# Altium footprint library trafo.PCBLIB: 80 footprints (part 4 of 5)
Each footprint in its own frame and in the unit in brackets; x right, y up, seen from the top. Pads: shape width x height; smd on the part's side, far side on the other; paste and mask are expansions set on the pad; w line width, h text height; cw(c..) or ccw(c..) is an arc to the next point about the centre after c.
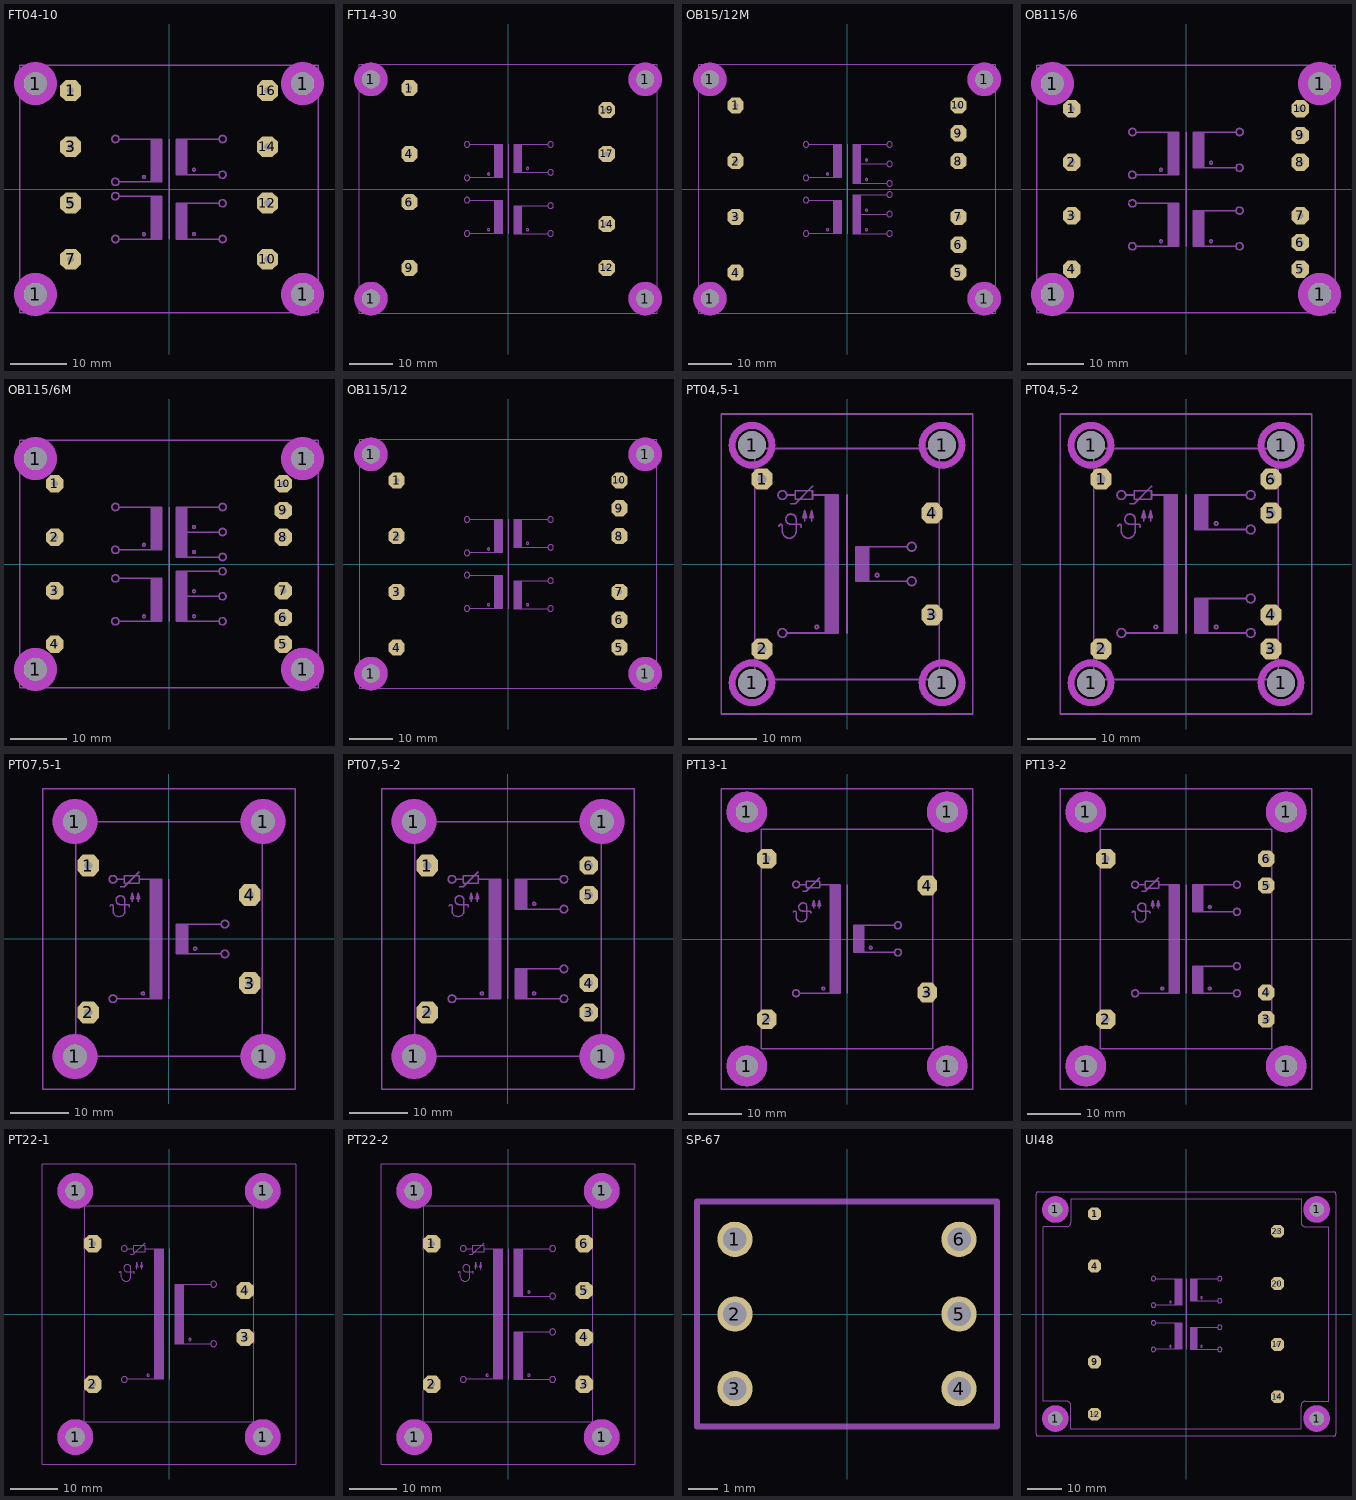
[diagram p3: the footprints below, top view; thin cyan lines are the x and y axes]

## FT04-10 [mil]
pads (12):
  round 162 hole 162: 1(-935,-738) 1(-935,738) 1(935,-738) 1(935,738)
  oct 145.24x145.24 hole 47: 1(-689,689) 3(-689,295) 5(-689,-98) 7(-689,-492) 10(689,-492) 12(689,-98) 14(689,295) 16(689,689)
Mechanical 2:
  circle w10: c-175,84 r10
  circle w10: c175,135 r10
  circle w10: c175,-315 r10
  circle w10: c-175,-316 r10
  circle w10: c375,100 r25
  circle w10: c375,350 r25
  circle w10: c-375,350 r25
  circle w10: c-375,-350 r25
  circle w10: c375,-350 r25
  circle w10: c375,-100 r25
  circle w10: c-375,-50 r25
  circle w10: c-375,50 r25
  rectangle: -125,50 -50,350
  rectangle: 50,100 125,350
  rectangle: -125,-350 -50,-50
  rectangle: 50,-350 125,-100
  lines w10: -350,-350 -125,-350 ; -350,-50 -125,-50 ; -350,50 -125,50 ; -350,350 -125,350 ; 0,-350 0,350 ; 350,-350 125,-350 ; 350,-100 125,-100 ; 350,100 125,100 ; 350,350 125,350 ; -125,-350 -125,-50 ; -125,-350 -50,-350 -50,-50 -125,-50 ; -125,50 -125,350 ; -125,50 -50,50 -50,350 -125,350 ; 125,-350 50,-350 50,-100 125,-100 ; 125,-350 125,-100 ; 125,100 50,100 50,350 125,350 ; 125,100 125,350 ; -1044,-866 1044,-866 1044,866 -1044,866 -1044,-866
Mechanical 11 keep-out:
  circle w70: c935,738 r115
  circle w70: c935,-738 r115
  circle w70: c-935,-738 r115
  circle w70: c-935,738 r115
Mechanical 12:
  circle w70: c935,738 r115
  circle w70: c935,-738 r115
  circle w70: c-935,-738 r115
  circle w70: c-935,738 r115

## FT14-30 [mil]
pads (12):
  round 162 hole 162: 1(-1231,-984) 1(-1231,984) 1(1231,-984) 1(1231,984)
  oct 145.24x145.24 hole 47: 1(-886,906) 4(-886,315) 6(-886,-118) 9(-886,-709) 12(886,-709) 14(886,-315) 17(886,315) 19(886,709)
Mechanical 2:
  circle w10: c-175,135 r10
  circle w10: c175,185 r10
  circle w10: c175,-365 r10
  circle w10: c-175,-365 r10
  circle w10: c382,150 r25
  circle w10: c382,400 r25
  circle w10: c-368,400 r25
  circle w10: c-368,100 r25
  circle w10: c-368,-100 r25
  circle w10: c-368,-400 r25
  circle w10: c382,-400 r25
  circle w10: c382,-150 r25
  rectangle: 50,-400 125,-150
  rectangle: -125,-400 -50,-100
  rectangle: -125,100 -50,400
  rectangle: 50,150 125,400
  lines w10: -340,-400 -125,-400 ; -340,-100 -125,-100 ; -340,100 -125,100 ; -340,400 -125,400 ; 0,-400 0,400 ; 355,-400 125,-400 ; 355,-150 125,-150 ; 355,150 125,150 ; 355,400 125,400 ; -125,-400 -125,-100 ; -125,-400 -50,-400 -50,-100 -125,-100 ; -125,100 -125,400 ; -125,100 -50,100 -50,400 -125,400 ; 125,-400 50,-400 50,-150 125,-150 ; 125,-400 125,-150 ; 125,150 50,150 50,400 125,400 ; 125,150 125,400 ; -1340,-1122 -1340,1122 1340,1122 1340,-1122 -1340,-1122
Mechanical 11 keep-out:
  circle w70: c-1231,984 r115
  circle w70: c1231,984 r115
  circle w70: c1231,-984 r115
  circle w70: c-1231,-984 r115
Mechanical 12:
  circle w70: c-1232,984 r115
  circle w70: c1231,985 r115
  circle w70: c1231,-984 r115
  circle w70: c-1231,-984 r115

## OB15/12M [mil]
pads (14):
  round 162 hole 162: 1(-1231,-984) 1(-1231,984) 1(1231,-984) 1(1231,984)
  oct 145.24x145.24 hole 47: 1(-1000,750) 2(-1000,250) 3(-1000,-250) 4(-1000,-750) 5(1000,-750) 6(1000,-500) 7(1000,-250) 8(1000,250) 9(1000,500) 10(1000,750)
Mechanical 2:
  circle w10: c-175,135 r10
  circle w10: c175,85 r10
  circle w10: c175,-365 r10
  circle w10: c-175,-365 r10
  circle w10: c382,50 r25
  circle w10: c382,400 r25
  circle w10: c-368,400 r25
  circle w10: c-368,100 r25
  circle w10: c-368,-100 r25
  circle w10: c-368,-400 r25
  circle w10: c382,-400 r25
  circle w10: c382,-50 r25
  circle w10: c382,-225 r25
  circle w10: c382,225 r25
  circle w10: c175,260 r10
  circle w10: c175,-190 r10
  rectangle: -126,-400 -51,-100
  rectangle: -126,100 -51,400
  rectangle: 50,-400 125,-50
  rectangle: 50,50 125,400
  lines w10: -340,-400 -125,-400 ; -340,-100 -125,-100 ; -340,100 -125,100 ; -340,400 -125,400 ; 0,-400 0,400 ; 355,-400 125,-400 ; 355,-225 125,-225 ; 355,-50 125,-50 ; 355,50 125,50 ; 355,225 125,225 ; 355,400 125,400 ; -125,-400 -125,-100 ; -125,-400 -50,-400 -50,-100 -125,-100 ; -125,100 -125,400 ; -125,100 -50,100 -50,400 -125,400 ; 125,-400 50,-400 50,-50 125,-50 ; 125,-400 125,-225 ; 125,-225 125,-50 ; 125,50 50,50 50,400 125,400 ; 125,50 125,225 ; 125,225 125,400 ; -1335,-1122 -1335,1122 1335,1122 1335,-1122 -1335,-1122
Mechanical 11 keep-out:
  circle w70: c-1231,984 r115
  circle w70: c1231,984 r115
  circle w70: c1231,-984 r115
  circle w70: c-1231,-984 r115
Mechanical 12:
  circle w70: c-1232,984 r115
  circle w70: c1231,985 r115
  circle w70: c1231,-984 r115
  circle w70: c-1231,-984 r115

## OB115/6 [mil]
pads (14):
  round 162 hole 162: 1(-935,-738) 1(-935,738) 1(935,-738) 1(935,738)
  oct 121.03x121.03 hole 47: 1(-800,562) 2(-800,187) 3(-800,-187) 4(-800,-562) 5(800,-562) 6(800,-375) 7(800,-187) 8(800,187) 9(800,375) 10(800,562)
Mechanical 2:
  circle w10: c-175,134 r10
  circle w10: c175,184 r10
  circle w10: c175,-366 r10
  circle w10: c-175,-366 r10
  circle w10: c375,149 r25
  circle w10: c375,399 r25
  circle w10: c-375,399 r25
  circle w10: c-375,99 r25
  circle w10: c-375,-101 r25
  circle w10: c-375,-401 r25
  circle w10: c375,-401 r25
  circle w10: c375,-151 r25
  rectangle: -125,99 -50,399
  rectangle: 50,149 125,399
  rectangle: -125,-401 -50,-101
  rectangle: 50,-401 125,-151
  lines w10: -350,-401 -125,-401 ; -350,-101 -125,-101 ; -350,99 -125,99 ; -350,399 -125,399 ; 0,-401 0,399 ; 350,-401 125,-401 ; 350,-151 125,-151 ; 350,149 125,149 ; 350,399 125,399 ; -125,-401 -125,-101 ; -125,-401 -50,-401 -50,-101 -125,-101 ; -125,99 -125,399 ; -125,99 -50,99 -50,399 -125,399 ; 125,-401 50,-401 50,-151 125,-151 ; 125,-401 125,-151 ; 125,149 50,149 50,399 125,399 ; 125,149 125,399 ; -1044,-866 1044,-866 1044,866 -1044,866 -1044,-866
Mechanical 11 keep-out:
  circle w70: c935,738 r115
  circle w70: c935,-738 r115
  circle w70: c-935,-738 r115
  circle w70: c-935,738 r115
Mechanical 12:
  circle w70: c935,738 r115
  circle w70: c935,-738 r115
  circle w70: c-935,-738 r115
  circle w70: c-935,738 r115

## OB115/6M [mil]
pads (14):
  round 162 hole 162: 1(-935,-738) 1(-935,738) 1(935,-738) 1(935,738)
  oct 121.03x121.03 hole 47: 1(-800,562) 2(-800,187) 3(-800,-187) 4(-800,-562) 5(800,-562) 6(800,-375) 7(800,-187) 8(800,187) 9(800,375) 10(800,562)
Mechanical 2:
  circle w10: c-175,134 r10
  circle w10: c175,259 r10
  circle w10: c175,-366 r10
  circle w10: c-175,-366 r10
  circle w10: c375,49 r25
  circle w10: c375,399 r25
  circle w10: c-375,399 r25
  circle w10: c-375,99 r25
  circle w10: c-375,-101 r25
  circle w10: c-375,-401 r25
  circle w10: c375,-401 r25
  circle w10: c375,-51 r25
  circle w10: c175,84 r10
  circle w10: c375,224 r25
  circle w10: c375,-226 r25
  circle w10: c175,-191 r10
  rectangle: -125,99 -50,399
  rectangle: -125,-401 -50,-101
  rectangle: 50,50 125,400
  rectangle: 50,-400 125,-50
  lines w10: -350,-401 -125,-401 ; -350,-101 -125,-101 ; -350,99 -125,99 ; -350,399 -125,399 ; 0,-401 0,399 ; 350,-401 125,-401 ; 350,-226 125,-226 ; 350,-51 125,-51 ; 350,49 125,49 ; 350,224 125,224 ; 350,399 125,399 ; -125,-401 -125,-101 ; -125,-401 -50,-401 -50,-101 -125,-101 ; -125,99 -125,399 ; -125,99 -50,99 -50,399 -125,399 ; 125,-401 50,-401 50,-51 125,-51 ; 125,-401 125,-226 ; 125,-226 125,-51 ; 125,49 50,49 50,399 125,399 ; 125,49 125,224 ; 125,224 125,399 ; -1044,-866 1044,-866 1044,866 -1044,866 -1044,-866
Mechanical 11 keep-out:
  circle w70: c935,738 r115
  circle w70: c935,-738 r115
  circle w70: c-935,-738 r115
  circle w70: c-935,738 r115
Mechanical 12:
  circle w70: c935,738 r115
  circle w70: c935,-738 r115
  circle w70: c-935,-738 r115
  circle w70: c-935,738 r115

## OB115/12 [mil]
pads (14):
  round 162 hole 162: 1(-1231,-984) 1(-1231,984) 1(1231,-984) 1(1231,984)
  oct 145.24x145.24 hole 47: 1(-1000,750) 2(-1000,250) 3(-1000,-250) 4(-1000,-750) 5(1000,-750) 6(1000,-500) 7(1000,-250) 8(1000,250) 9(1000,500) 10(1000,750)
Mechanical 2:
  circle w10: c-175,135 r10
  circle w10: c175,185 r10
  circle w10: c175,-365 r10
  circle w10: c-175,-365 r10
  circle w10: c382,150 r25
  circle w10: c382,400 r25
  circle w10: c-368,400 r25
  circle w10: c-368,100 r25
  circle w10: c-368,-100 r25
  circle w10: c-368,-400 r25
  circle w10: c382,-400 r25
  circle w10: c382,-150 r25
  rectangle: 50,-399 125,-149
  rectangle: -126,-400 -51,-100
  rectangle: -126,100 -51,400
  rectangle: 50,151 125,401
  lines w10: -340,-400 -125,-400 ; -340,-100 -125,-100 ; -340,100 -125,100 ; -340,400 -125,400 ; 0,-400 0,400 ; 355,-400 125,-400 ; 355,-150 125,-150 ; 355,150 125,150 ; 355,400 125,400 ; -125,-400 -125,-100 ; -125,-400 -50,-400 -50,-100 -125,-100 ; -125,100 -125,400 ; -125,100 -50,100 -50,400 -125,400 ; 125,-400 50,-400 50,-150 125,-150 ; 125,-400 125,-150 ; 125,150 50,150 50,400 125,400 ; 125,150 125,400 ; -1335,-1122 -1335,1122 1335,1122 1335,-1122 -1335,-1122
Mechanical 11 keep-out:
  circle w70: c-1231,984 r115
  circle w70: c1231,984 r115
  circle w70: c1231,-984 r115
  circle w70: c-1231,-984 r115
Mechanical 12:
  circle w70: c-1232,984 r115
  circle w70: c1231,985 r115
  circle w70: c1231,-984 r115
  circle w70: c-1231,-984 r115

## PT04,5-1 [mil]
pads (8):
  round 162 hole 162: 1(-551,-689) 1(-551,689) 1(551,-689) 1(551,689)
  oct 121.03x121.03 hole 55: 1(-493,493) 2(-493,-493) 3(493,-295) 4(493,295)
Mechanical 2:
  circle w10: c-175,-365 r10
  circle w10: c175,-65 r10
  circle w10: c-375,-400 r25
  circle w10: c-375,400 r25
  circle w10: c375,100 r25
  circle w10: c375,-100 r25
  rectangle: -125,-400 -50,400
  rectangle: 50,-100 125,100
  lines w10: -535,-595 -535,-550 ; -535,-430 -535,435 ; -535,550 -535,595 ; -460,-670 460,-670 ; -460,670 460,670 ; -395,220 cw(c-385,220) -375,220 -375,190 ccw(c-335,190) -295,190 -295,260 ccw(c-325,260) -325,230 -275,230 cw(c-275,220) -267.93,212.93 ; -350,-400 -125,-400 ; -350,400 -300,400 ; -325,350 -300,350 -200,450 ; -245,250 -245,310 ; -205,250 -205,310 ; 0,-400 0,400 ; 350,-100 125,-100 ; 350,100 125,100 ; 535,-595 535,-360 ; 535,-230 535,230 ; 535,360 535,595 ; -300,400 -300,425 -200,425 -200,400 ; -300,400 -300,375 -200,375 -200,400 ; -245,310 -255,270 -235,270 -245,310 ; -205,310 -215,270 -195,270 -205,310 ; -200,400 -125,400 ; -125,-400 -125,400 ; -125,-400 -50,-400 -50,400 -125,400 ; 125,-100 50,-100 50,100 125,100 ; 125,-100 125,100 ; -730,-870 -730,870 730,870 730,-870 -730,-870
Mechanical 11 keep-out:
  circle w40: c-551,-689 r115
  circle w40: c-551,689 r115
  circle w40: c551,689 r115
  circle w40: c551,-689 r115
Mechanical 12:
  circle w40: c-551,-689 r115
  circle w40: c-551,689 r115
  circle w40: c551,689 r115
  circle w40: c551,-689 r115
Mechanical 18:
  lines w10: -535,-595 -535,-670 -460,-670 ; -535,-550 -535,-430 ; -535,435 -535,550 ; -535,595 -535,670 -460,670 ; 460,-670 535,-670 535,-595 ; 460,670 535,670 535,595 ; 535,-360 535,-230 ; 535,230 535,360

## PT04,5-2 [mil]
pads (10):
  round 162 hole 162: 1(-551,-689) 1(-551,689) 1(551,-689) 1(551,689)
  oct 121.03x121.03 hole 55: 1(-493,492) 2(-493,-492) 3(493,-492) 4(493,-295) 5(493,295) 6(493,492)
Mechanical 2:
  circle w10: c-175,-365 r10
  circle w10: c175,235 r10
  circle w10: c-375,-400 r25
  circle w10: c-375,400 r25
  circle w10: c375,400 r25
  circle w10: c375,200 r25
  circle w10: c175,-365 r10
  circle w10: c375,-200 r25
  circle w10: c375,-400 r25
  rectangle: -125,-400 -50,400
  rectangle: 50,-400 125,-200
  rectangle: 50,200 125,400
  lines w10: -535,-595 -535,-555 ; -535,-430 -535,430 ; -535,555 -535,595 ; -460,-670 460,-670 ; -460,670 460,670 ; -395,220 cw(c-385,220) -375,220 -375,190 ccw(c-335,190) -295,190 -295,260 ccw(c-325,260) -325,230 -275,230 cw(c-275,220) -267.93,212.93 ; -350,-400 -125,-400 ; -350,400 -300,400 ; -325,350 -300,350 -200,450 ; -245,250 -245,310 ; -205,250 -205,310 ; 0,-400 0,400 ; 350,-400 125,-400 ; 350,-200 125,-200 ; 350,200 125,200 ; 350,400 125,400 ; 535,-595 535,-555 ; 535,-430 535,-355 ; 535,-230 535,230 ; 535,355 535,430 ; 535,555 535,600 ; -300,400 -300,375 -200,375 -200,400 ; -300,400 -300,425 -200,425 -200,400 ; -245,310 -255,270 -235,270 -245,310 ; -205,310 -215,270 -195,270 -205,310 ; -200,400 -125,400 ; -125,-400 -125,400 ; -125,-400 -50,-400 -50,400 -125,400 ; 125,-400 50,-400 50,-200 125,-200 ; 125,-400 125,-200 ; 125,200 50,200 50,400 125,400 ; 125,200 125,400 ; -730,-870 -730,870 730,870 730,-870 -730,-870
Mechanical 11 keep-out:
  circle w40: c-551,-689 r115
  circle w40: c-551,689 r115
  circle w40: c551,689 r115
  circle w40: c551,-689 r115
Mechanical 12:
  circle w40: c-551,-689 r115
  circle w40: c-551,689 r115
  circle w40: c551,689 r115
  circle w40: c551,-689 r115
Mechanical 18:
  lines w10: -535,-595 -535,-670 -460,-670 ; -535,-555 -535,-430 ; -535,430 -535,555 ; -535,595 -535,670 -460,670 ; 460,-670 535,-670 535,-595 ; 460,670 535,670 535,595 ; 535,-555 535,-430 ; 535,-355 535,-230 ; 535,230 535,355 ; 535,430 535,555

## PT07,5-1 [mil]
pads (8):
  round 162 hole 162: 1(-630,-787) 1(-630,787) 1(630,-787) 1(630,787)
  oct 145.24x145.24 hole 55: 1(-541,492) 2(-541,-492) 3(541,-295) 4(541,295)
Mechanical 2:
  circle w10: c-175,-365 r10
  circle w10: c175,-65 r10
  circle w10: c-375,-400 r25
  circle w10: c-375,400 r25
  circle w10: c375,100 r25
  circle w10: c375,-100 r25
  rectangle: -125,-400 -50,400
  rectangle: 50,-100 125,100
  lines w10: -625,-695 -625,695 ; -540,-785 540,-785 ; -540,785 540,785 ; -395,220 cw(c-385,220) -375,220 -375,190 ccw(c-335,190) -295,190 -295,260 ccw(c-325,260) -325,230 -275,230 cw(c-275,220) -267.93,212.93 ; -350,-400 -125,-400 ; -350,400 -300,400 ; -325,350 -300,350 -200,450 ; -245,250 -245,310 ; -205,250 -205,310 ; 0,-400 0,400 ; 350,-100 125,-100 ; 350,100 125,100 ; 625,-695 625,695 ; -300,400 -300,375 -200,375 -200,400 ; -300,400 -300,425 -200,425 -200,400 ; -245,310 -255,270 -235,270 -245,310 ; -205,310 -215,270 -195,270 -205,310 ; -200,400 -125,400 ; -125,-400 -125,400 ; -125,-400 -50,-400 -50,400 -125,400 ; 125,-100 50,-100 50,100 125,100 ; 125,-100 125,100 ; -845,-1005 -845,1005 845,1005 845,-1005 -845,-1005
Mechanical 11 keep-out:
  circle w70: c-630,-787 r115
  circle w70: c-630,787 r115
  circle w70: c630,787 r115
  circle w70: c630,-787 r115
Mechanical 12:
  circle w70: c-630,-787 r115
  circle w70: c-630,787 r115
  circle w70: c630,787 r115
  circle w70: c630,-787 r115
Mechanical 18:
  lines w10: -625,-695 -625,-785 -540,-785 ; -625,695 -625,785 -540,785 ; 540,-785 625,-785 625,-695 ; 540,785 625,785 625,695

## PT07,5-2 [mil]
pads (10):
  round 162 hole 162: 1(-630,-787) 1(-630,787) 1(630,-787) 1(630,787)
  oct 145.24x145.24 hole 55: 1(-541,492) 2(-541,-492)
  oct 121.03x121.03 hole 55: 3(541,-492) 4(541,-295) 5(541,295) 6(541,492)
Mechanical 2:
  circle w10: c-175,-365 r10
  circle w10: c175,235 r10
  circle w10: c-375,-400 r25
  circle w10: c-375,400 r25
  circle w10: c375,400 r25
  circle w10: c375,200 r25
  circle w10: c175,-365 r10
  circle w10: c375,-200 r25
  circle w10: c375,-400 r25
  rectangle: -125,-400 -50,400
  rectangle: 50,-400 125,-200
  rectangle: 50,200 125,400
  lines w10: -625,-695 -625,695 ; -540,-785 540,-785 ; -540,785 540,785 ; -395,220 cw(c-385,220) -375,220 -375,190 ccw(c-335,190) -295,190 -295,260 ccw(c-325,260) -325,230 -275,230 cw(c-275,220) -267.93,212.93 ; -350,-400 -125,-400 ; -350,400 -300,400 ; -325,350 -300,350 -200,450 ; -245,250 -245,310 ; -205,250 -205,310 ; 0,-400 0,400 ; 350,-400 125,-400 ; 350,-200 125,-200 ; 350,200 125,200 ; 350,400 125,400 ; 625,-695 625,695 ; -300,400 -300,375 -200,375 -200,400 ; -300,400 -300,425 -200,425 -200,400 ; -245,310 -255,270 -235,270 -245,310 ; -205,310 -215,270 -195,270 -205,310 ; -200,400 -125,400 ; -125,-400 -125,400 ; -125,-400 -50,-400 -50,400 -125,400 ; 125,-400 50,-400 50,-200 125,-200 ; 125,-400 125,-200 ; 125,200 50,200 50,400 125,400 ; 125,200 125,400 ; -845,-1005 -845,1005 845,1005 845,-1005 -845,-1005
Mechanical 11 keep-out:
  circle w70: c-630,-787 r115
  circle w70: c630,-787 r115
  circle w70: c630,787 r115
  circle w70: c-630,787 r115
Mechanical 12:
  circle w70: c-630,-787 r115
  circle w70: c630,-787 r115
  circle w70: c630,787 r115
  circle w70: c-630,787 r115
Mechanical 18:
  lines w10: -625,-695 -625,-785 -540,-785 ; -625,695 -625,785 -540,785 ; 540,-785 625,-785 625,-695 ; 540,785 625,785 625,695

## PT13-1 [mil]
pads (8):
  round 162 hole 162: 1(-738,-936) 1(-738,936) 1(738,-936) 1(738,936)
  oct 145.24x145.24 hole 55: 1(-591,591) 2(-591,-591) 3(591,-394) 4(591,394)
Mechanical 2:
  circle w10: c-175,-364 r10
  circle w10: c175,-64 r10
  circle w10: c375,101 r25
  circle w10: c375,-99 r25
  circle w10: c-375,401 r25
  circle w10: c-375,-399 r25
  rectangle: -125,-399 -50,401
  rectangle: 50,-99 125,101
  lines w10: -630,-675 -630,-810 630,-810 630,-475 ; -630,-505 -630,505 ; -630,675 -630,810 630,810 630,480 ; -395,196 cw(c-385,196) -375,196 -375,166 ccw(c-335,166) -295,166 -295,236 ccw(c-325,236) -325,206 -275,206 cw(c-275,196) -267.93,188.93 ; -350,-399 -125,-399 ; -350,401 -300,401 ; -325,351 -300,351 -200,451 ; -245,226 -245,286 ; -205,226 -205,286 ; 0,-399 0,401 ; 350,-99 125,-99 ; 350,101 125,101 ; 630,-305 630,310 ; -300,401 -300,426 -200,426 -200,401 ; -300,401 -300,376 -200,376 -200,401 ; -245,286 -255,246 -235,246 -245,286 ; -205,286 -215,246 -195,246 -205,286 ; -200,401 -125,401 ; -125,-399 -125,401 ; -125,-399 -50,-399 -50,401 -125,401 ; 125,-99 50,-99 50,101 125,101 ; 125,-99 125,101 ; -925,-1105 -925,1105 925,1105 925,-1105 -925,-1105
Mechanical 11 keep-out:
  circle w70: c738,-936 r115
  circle w70: c-738,-936 r115
  circle w70: c738,936 r115
  circle w70: c-738,936 r115
Mechanical 12:
  circle w70: c738,-936 r115
  circle w70: c-738,-936 r115
  circle w70: c738,936 r115
  circle w70: c-738,936 r115
Mechanical 18:
  lines w10: -630,-675 -630,-505 ; -630,505 -630,675 ; 630,-475 630,-305 ; 630,310 630,480

## PT13-2 [mil]
pads (10):
  round 162 hole 162: 1(-738,-936) 1(-738,936) 1(738,-936) 1(738,936)
  oct 145.24x145.24 hole 55: 1(-591,591) 2(-591,-591)
  oct 121.03x121.03 hole 55: 3(591,-591) 4(591,-394) 5(591,394) 6(591,591)
Mechanical 2:
  circle w10: c-175,-365 r10
  circle w10: c175,235 r10
  circle w10: c175,-365 r10
  circle w10: c375,-200 r25
  circle w10: c375,-400 r25
  circle w10: c375,200 r25
  circle w10: c375,400 r25
  circle w10: c-375,400 r25
  circle w10: c-375,-400 r25
  rectangle: -125,-400 -50,400
  rectangle: 50,200 125,400
  rectangle: 50,-400 125,-200
  lines w10: -630,-675 -630,-810 630,-810 630,-655 ; -630,-505 -630,505 ; -630,675 -630,810 630,810 630,660 ; -395,195 cw(c-385,195) -375,195 -375,165 ccw(c-335,165) -295,165 -295,235 ccw(c-325,235) -325,205 -275,205 cw(c-275,195) -267.93,187.93 ; -350,-400 -125,-400 ; -350,400 -300,400 ; -325,350 -300,350 -200,450 ; -245,225 -245,285 ; -205,225 -205,285 ; 0,-400 0,400 ; 350,-400 125,-400 ; 350,-200 125,-200 ; 350,200 125,200 ; 350,400 125,400 ; 630,-525 630,-460 ; 630,-325 630,325 ; 630,460 630,525 ; -300,400 -300,425 -200,425 -200,400 ; -300,400 -300,375 -200,375 -200,400 ; -245,285 -255,245 -235,245 -245,285 ; -205,285 -215,245 -195,245 -205,285 ; -200,400 -125,400 ; -125,-400 -125,400 ; -125,-400 -50,-400 -50,400 -125,400 ; 125,-400 50,-400 50,-200 125,-200 ; 125,-400 125,-200 ; 125,200 50,200 50,400 125,400 ; 125,200 125,400 ; -925,-1105 -925,1105 925,1105 925,-1105 -925,-1105
Mechanical 11 keep-out:
  circle w70: c738,-936 r115
  circle w70: c-738,-936 r115
  circle w70: c738,936 r115
  circle w70: c-738,936 r115
Mechanical 12:
  circle w70: c738,-936 r115
  circle w70: c-738,-936 r115
  circle w70: c738,936 r115
  circle w70: c-738,936 r115
Mechanical 18:
  lines w10: -630,-675 -630,-505 ; -630,505 -630,675 ; 630,-655 630,-525 ; 630,-460 630,-325 ; 630,325 630,460 ; 630,525 630,660

## PT22-1 [mil]
pads (8):
  round 162 hole 162: 1(-787,-1034) 1(-787,1034) 1(787,-1034) 1(787,1034)
  oct 145.24x145.24 hole 55: 1(-640,591) 2(-640,-591) 3(640,-197) 4(640,197)
Mechanical 2:
  circle w10: c-175,-515 r10
  circle w10: c175,-215 r10
  circle w10: c375,250 r25
  circle w10: c375,-250 r25
  circle w10: c-375,-550 r25
  circle w10: c-375,550 r25
  rectangle: -125,-550 -50,550
  rectangle: 50,-250 125,250
  lines w10: -710,-640 -710,-905 710,-905 710,-245 ; -710,-545 -710,545 ; -710,635 -710,905 710,905 710,245 ; -420,345 cw(c-410,345) -400,345 -400,315 ccw(c-360,315) -320,315 -320,385 ccw(c-350,385) -350,355 -300,355 cw(c-300,345) -292.93,337.93 ; -350,-550 -125,-550 ; -350,550 -300,550 ; -325,500 -300,500 -200,600 ; -270,375 -270,435 ; -230,375 -230,435 ; 0,-550 0,550 ; 350,-250 125,-250 ; 350,250 125,250 ; 710,-150 710,150 ; -300,550 -300,525 -200,525 -200,550 ; -300,550 -300,575 -200,575 -200,550 ; -270,435 -280,395 -260,395 -270,435 ; -230,435 -240,395 -220,395 -230,435 ; -200,550 -125,550 ; -125,-550 -125,550 ; -125,-550 -50,-550 -50,550 -125,550 ; 125,-250 50,-250 50,250 125,250 ; 125,-250 125,250 ; -1065,-1260 -1065,1260 1065,1260 1065,-1260 -1065,-1260
Mechanical 11 keep-out:
  circle w70: c-787,-1034 r115
  circle w70: c-787,1034 r115
  circle w70: c787,-1034 r115
  circle w70: c787,1034 r115
Mechanical 12:
  circle w70: c-787,-1034 r115
  circle w70: c-787,1034 r115
  circle w70: c787,-1034 r115
  circle w70: c787,1034 r115
Mechanical 18:
  lines w10: -710,-640 -710,-545 ; -710,545 -710,635 ; 710,-245 710,-150 ; 710,150 710,245

## PT22-2 [mil]
pads (10):
  round 162 hole 162: 1(-787,-1034) 1(-787,1034) 1(787,-1034) 1(787,1034)
  oct 145.24x145.24 hole 55: 1(-640,591) 2(-640,-591) 3(640,-591) 4(640,-197) 5(640,197) 6(640,591)
Mechanical 2:
  circle w10: c-175,-515 r10
  circle w10: c175,-515 r10
  circle w10: c175,185 r10
  circle w10: c375,-150 r25
  circle w10: c375,-550 r25
  circle w10: c375,150 r25
  circle w10: c375,550 r25
  circle w10: c-375,550 r25
  circle w10: c-375,-550 r25
  rectangle: -125,-550 -50,550
  rectangle: 50,-550 125,-150
  rectangle: 50,150 125,550
  lines w10: -710,-640 -710,-905 710,-905 710,-635 ; -710,-540 -710,540 ; -710,640 -710,905 710,905 710,-150 ; -420,345 cw(c-410,345) -400,345 -400,315 ccw(c-360,315) -320,315 -320,385 ccw(c-350,385) -350,355 -300,355 cw(c-300,345) -292.93,337.93 ; -350,-550 -125,-550 ; -350,550 -300,550 ; -325,500 -300,500 -200,600 ; -270,375 -270,435 ; -230,375 -230,435 ; 0,-550 0,550 ; 350,-550 125,-550 ; 350,-150 125,-150 ; 350,150 125,150 ; 350,550 125,550 ; 710,-545 710,-245 ; -300,550 -300,525 -200,525 -200,550 ; -300,550 -300,575 -200,575 -200,550 ; -270,435 -280,395 -260,395 -270,435 ; -230,435 -240,395 -220,395 -230,435 ; -200,550 -125,550 ; -125,-550 -125,550 ; -125,-550 -50,-550 -50,550 -125,550 ; 125,-550 50,-550 50,-150 125,-150 ; 125,-550 125,-150 ; 125,150 50,150 50,550 125,550 ; 125,150 125,550 ; -1065,-1260 -1065,1260 1065,1260 1065,-1260 -1065,-1260
Mechanical 11 keep-out:
  circle w70: c-787,-1034 r115
  circle w70: c-787,1034 r115
  circle w70: c787,-1034 r115
  circle w70: c787,1034 r115
Mechanical 12:
  circle w70: c-787,-1034 r115
  circle w70: c-787,1034 r115
  circle w70: c787,-1034 r115
  circle w70: c787,1034 r115
Mechanical 18:
  lines w10: -710,-640 -710,-540 ; -710,540 -710,640 ; 710,-635 710,-545 ; 710,-245 710,-150

## SP-67 [mil]
pads (6):
  round 47.25 hole 31.5: 1(-150,100) 2(-150,0) 3(-150,-100) 4(150,-100) 5(150,0) 6(150,100)
Mechanical 2:
  lines w8: -200.79,-150.59 200.79,-150.59 200.79,150.59 -200.79,150.59 -200.79,-150.59

## UI48 [mil]
pads (12):
  round 162 hole 162: 1(-1476,-1181) 1(-1476,1181) 1(1476,-1181) 1(1476,1181)
  oct 145.24x145.24 hole 47: 1(-1033,1132) 4(-1033,541) 9(-1033,-541) 12(-1033,-1132) 14(1033,-935) 17(1033,-344) 20(1033,344) 23(1033,935)
Mechanical 2:
  circle w10: c-175,135 r10
  circle w10: c175,185 r10
  circle w10: c175,-365 r10
  circle w10: c-175,-365 r10
  circle w10: c382,150 r25
  circle w10: c382,400 r25
  circle w10: c-368,400 r25
  circle w10: c-368,100 r25
  circle w10: c-368,-100 r25
  circle w10: c-368,-400 r25
  circle w10: c382,-400 r25
  circle w10: c382,-150 r25
  rectangle: 50,-400 125,-150
  rectangle: -125,-400 -50,-100
  rectangle: -125,100 -50,400
  rectangle: 50,150 125,400
  lines w10: -340,-400 -125,-400 ; -340,-100 -125,-100 ; -340,100 -125,100 ; -340,400 -125,400 ; 0,-400 0,400 ; 355,-400 125,-400 ; 355,-150 125,-150 ; 355,150 125,150 ; 355,400 125,400 ; -125,-400 -125,-100 ; -125,-400 -50,-400 -50,-100 -125,-100 ; -125,100 -125,400 ; -125,100 -50,100 -50,400 -125,400 ; 125,-400 50,-400 50,-150 125,-150 ; 125,-400 125,-150 ; 125,150 50,150 50,400 125,400 ; 125,150 125,400 ; -1695,-1355 -1695,1355 cw(c-1670,1355) -1670,1380 1670,1380 cw(c1670,1355) 1695,1355 1695,-1355 cw(c1670,-1355) 1670,-1380 -1670,-1380 cw(c-1670,-1355) -1695,-1355 ; -1615,-985 -1350,-985 cw(c-1350,-1035) -1300,-1035 -1300,-1300 1300,-1300 1300,-1035 cw(c1350,-1035) 1350,-985 1615,-985 1615,985 1350,985 cw(c1350,1035) 1300,1035 1300,1300 -1300,1300 -1300,1035 cw(c-1350,1035) -1350,985 -1615,985 -1615,-985
Mechanical 11 keep-out:
  circle w70: c1476,-1181 r115
  circle w70: c-1476,-1181 r115
  circle w70: c-1476,1181 r115
  circle w70: c1476,1181 r115
Mechanical 12:
  circle w70: c1476,-1181 r115
  circle w70: c-1476,-1181 r115
  circle w70: c-1476,1181 r115
  circle w70: c1476,1181 r115